# Altium schematic symbol library 10A_Fuse.SchLib: 1 symbol
Pins are listed as number, name and electrical type; pins without a type are passive.

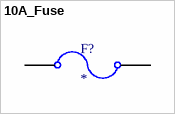
[diagram p0: symbol 10A_Fuse]

## 10A_Fuse
designator F?
footprint 10A_Fuse
pins: 0, 1